# EAGLE library part MIC4606-1 (library Microchip)
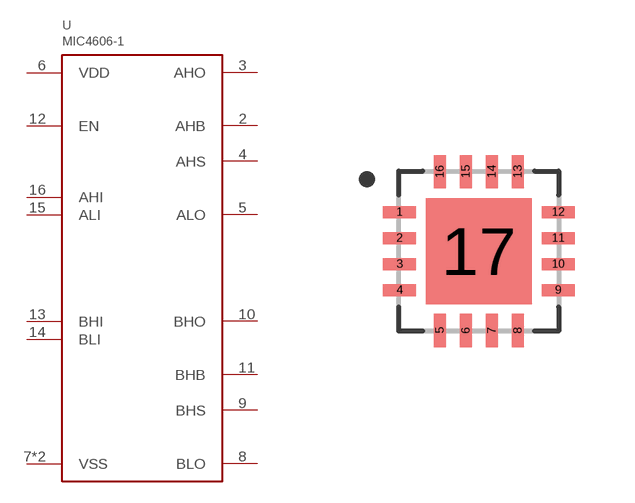
[diagram p37: symbol with the pads of VQFN16; footprint VQFN16]

Designator prefix U

## MIC4606-1  [VQFN16]
2  AHB
3  AHO
4  AHS
5  ALO
6  VDD
7  VSS
8  BLO
9  BHS
10  BHO
11  BHB
12  EN
13  BHI
14  BLI
15  ALI
16  AHI
17  VSS

## Footprint VQFN16 (pad centres in mm)
smd 0.83 x 0.3: 1 -1.985,0.975; 2 -1.985,0.325; 3 -1.985,-0.325; 4 -1.985,-0.975; 9 1.985,-0.975; 10 1.985,-0.325; 11 1.985,0.325; 12 1.985,0.975
smd 0.3 x 0.83: 5 -0.975,-1.985; 6 -0.325,-1.985; 7 0.325,-1.985; 8 0.975,-1.985; 13 0.975,1.985; 14 0.325,1.985; 15 -0.325,1.985; 16 -0.975,1.985
smd 2.65 x 2.65: 17 0,0